# EAGLE library part *192 (library digital)
74xx192: 4-bit up/down decade counter Synchronous, with dual clock
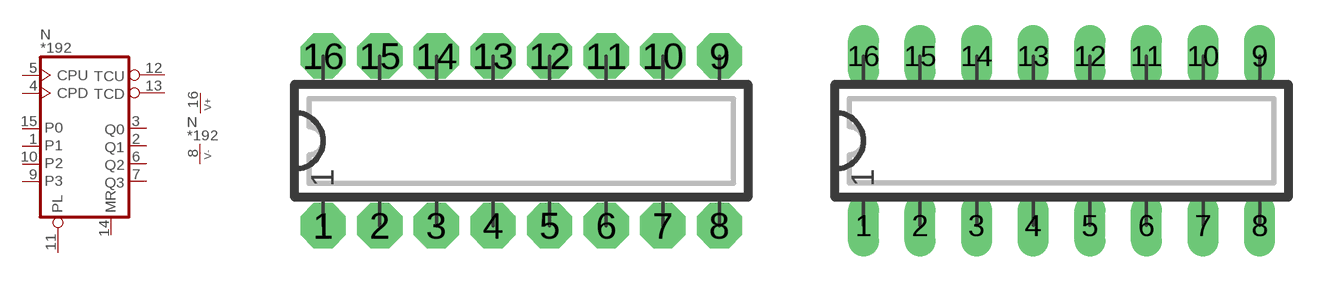
[diagram p0: symbol with the pads of DIP16N; footprints DIP16N, DIP16L]

Designator prefix N; gates  =UPDOWN_1 P=V+-

## 74192N, 74ALS192N, 74C192N, 74HC192N, 74HCT192N, 74L192N, 74LS192N  [DIP16N]
1   :P1  in
2   :Q1  out
3   :Q0  out
4   :CPD  in
5   :CPU  in
6   :Q2  out
7   :Q3  out
8  P:V-  pwr
9   :P3  in
10   :P2  in
11   :PL  in
12   :TCU  out
13   :TCD  out
14   :MR  in
15   :P0  in
16  P:V+  pwr

## 74192, 74ALS192, 74C192, 74HC192, 74HCT192, 74L192, 74LS192  [DIP16L]
Pads as for DIP16N

## 74192L, 74ALS192L, 74C192L, 74HC192L, 74HCT192L, 74L192L, 74LS192L  [DIP16L]
Pads as for DIP16N

## 74192R, 74ALS192R, 74C192R, 74HC192R, 74HCT192R, 74L192R, 74LS192R  [DIP16R]
Pads as for DIP16N

## 74HC192S  [SO16]
Pads as for DIP16N

## Footprint DIP16N (pad centres in mm)
DIP-16 Standard IC package, 16 pins
drill 0.813 pad 2.032 octagon: 1 0,0; 2 2.54,0; 3 5.08,0; 4 7.62,0; 5 10.16,0; 6 12.7,0; 7 15.24,0; 8 17.78,0; 9 17.78,7.62; 10 15.24,7.62; 11 12.7,7.62; 12 10.16,7.62; 13 7.62,7.62; 14 5.08,7.62; 15 2.54,7.62; 16 0,7.62

## Footprint DIP16L (pad centres in mm)
DIP-16, long pads Standard IC package, 16 pins
drill 0.813 pad 1.397 long: 1 0,0; 2 2.54,0; 3 5.08,0; 4 7.62,0; 5 10.16,0; 6 12.7,0; 7 15.24,0; 8 17.78,0; 9 17.78,7.62; 10 15.24,7.62; 11 12.7,7.62; 12 10.16,7.62; 13 7.62,7.62; 14 5.08,7.62; 15 2.54,7.62; 16 0,7.62

## Footprint DIP16R (pad centres in mm)
DIP-16, reduced pads Standard IC package, 16 pins
drill 0.813 pad 1.397 square: 1 0,0; 2 2.54,0; 3 5.08,0; 4 7.62,0; 5 10.16,0; 6 12.7,0; 7 15.24,0; 8 17.78,0; 9 17.78,7.62; 10 15.24,7.62; 11 12.7,7.62; 12 10.16,7.62; 13 7.62,7.62; 14 5.08,7.62; 15 2.54,7.62; 16 0,7.62

## Footprint SO16 (pad centres in mm)
SO-16, SMD SOIC IC package, 16 pins
smd 0.635 x 1.778: 1 -4.445,-2.857; 2 -3.175,-2.857; 3 -1.905,-2.857; 4 -0.635,-2.857; 5 0.635,-2.857; 6 1.905,-2.857; 7 3.175,-2.857; 8 4.445,-2.857; 9 4.445,2.857; 10 3.175,2.857; 11 1.905,2.857; 12 0.635,2.857; 13 -0.635,2.857; 14 -1.905,2.857; 15 -3.175,2.857; 16 -4.445,2.857